# EAGLE library part MCP3428-E/SL (library MCP3428)
Analog-to-Digital Converter
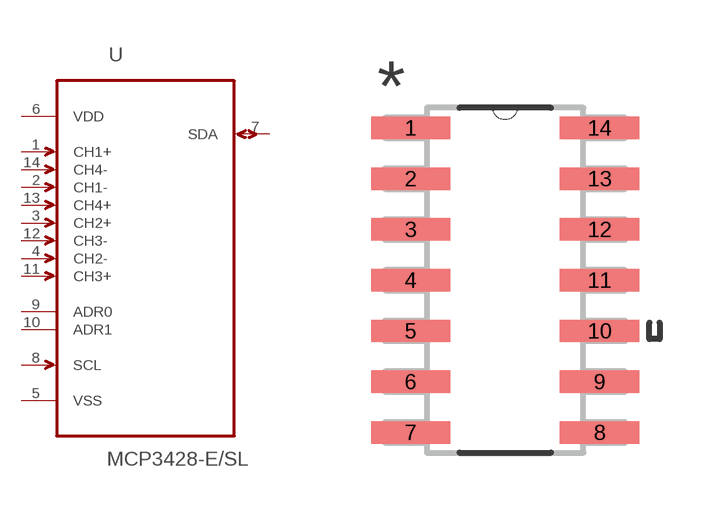
[diagram p0: symbol with the pads of SOIC127P600X175-14N; footprint SOIC127P600X175-14N]

Designator prefix -

## MCP3428-E/SL (MPN: MCP3428-E/SL; OC_FARNELL: 1825014; OC_NEWARK: 52R9962; PACKAGE: SOIC-14; SUPPLIER: Microchip)  [SOIC127P600X175-14N]
1  CH1+  in
2  CH1-  in
3  CH2+  in
4  CH2-  in
5  VSS  pwr
6  VDD  pwr
7  SDA
8  SCL  in
9  ADR0  pas
10  ADR1  pas
11  CH3+  in
12  CH3-  in
13  CH4+  in
14  CH4-  in

## Footprint SOIC127P600X175-14N (pad centres in mm)
smd 1.981 x 0.559: 1 -2.362,3.81; 2 -2.362,2.54; 3 -2.362,1.27; 4 -2.362,0; 5 -2.362,-1.27; 6 -2.362,-2.54; 7 -2.362,-3.81; 8 2.362,-3.81; 9 2.362,-2.54; 10 2.362,-1.27; 11 2.362,0; 12 2.362,1.27; 13 2.362,2.54; 14 2.362,3.81